# Altium schematic symbol library OPA210IDGKR.SchLib: 1 symbol
Pins are listed as number, name and electrical type; pins without a type are passive.

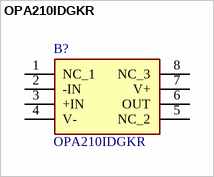
[diagram p0: symbol OPA210IDGKR]

## OPA210IDGKR
designator B?
Operational Amplifiers - Op Amps 2.2-nV/vHz, low-power, 36-V operational amplifier; Manufacturer_Name: Texas Instruments; Geometry.Height: 1.1mm; Mouser Part Number: 595-OPA210IDGKR; Mouser Price/Stock: https://www.mouser.co.uk/ProductDetail/Texas-Instruments/OPA210IDGKR?qs=pBJMDPsKWf235pNNdDlWqg%3D%3D; Manufacturer_Part_Number: OPA210IDGKR; Datasheet Link: *
footprint SOP65P490X110-8N
pins: 1 NC_1, 2 -IN, 3 +IN, 4 V-, 5 NC_2, 6 OUT, 7 V+, 8 NC_3